# Altium schematic symbol library Connectors_SCH.SchLib: 1 symbol
Pins are listed as number, name and electrical type; pins without a type are passive.

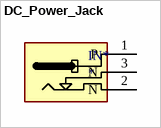
[diagram p0: symbol DC_Power_Jack]

## DC_Power_Jack
designator IN*
footprint DC_Female_Jack
pins: 1 P, 2 N, 3 N